# EAGLE library part SDA04SK_S (library switch-dil)
DIP SWITCH
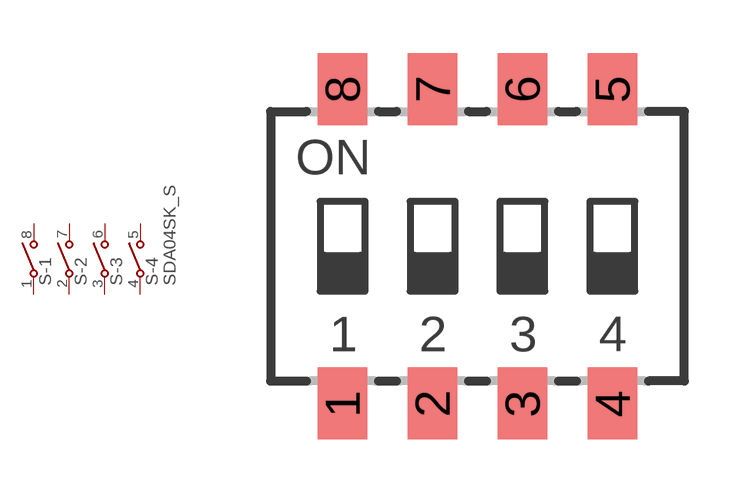
[diagram p58: symbol with the pads of SDA04SK; footprint SDA04SK]

Designator prefix S; gates -1=S -2=S -3=S -4=S+V

## SDA04SK_S  [SDA04SK]
1  -1:1  pas
2  -2:1  pas
3  -3:1  pas
4  -4:1  pas
5  -4:2  pas
6  -3:2  pas
7  -2:2  pas
8  -1:2  pas

## Footprint SDA04SK (pad centres in mm)
C&K SDA Series
smd 1.397 x 2.032: 1 -3.81,-4.445; 2 -1.27,-4.445; 3 1.27,-4.445; 4 3.81,-4.445; 5 3.81,4.445; 6 1.27,4.445; 7 -1.27,4.445; 8 -3.81,4.445